# Altium schematic symbol library CONN-STD-SUBD3W3.SchLib: 1 symbol
Pins are listed as number, name and electrical type; pins without a type are passive.

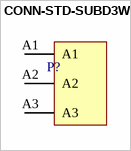
[diagram p0: symbol CONN-STD-SUBD3W3]

## CONN-STD-SUBD3W3
designator P?  (value not drawn)
pins: A1, A2, A3